# Altium schematic symbol library ADA4945-1ACPZ.SchLib: 2 symbols
Pins are listed as number, name and electrical type; pins without a type are passive.

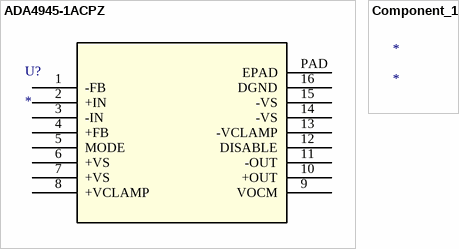
[diagram p0: symbols ADA4945-1ACPZ to Component_1]

## ADA4945-1ACPZ
designator U?
No Description Available; Copyright: Copyright (C) 2021 Accelerated Designs. All rights reserved; RefDes: RefDes; Type: DEV
footprint CP_16_22
pins: 1 -FB, 2 +IN, 3 -IN, 4 +FB, 5 MODE, 6 +VS, 7 +VS, 8 +VCLAMP, 9 VOCM, 10 +OUT, 11 -OUT, 12 DISABLE, 13 -VCLAMP, 14 -VS, 15 -VS, 16 DGND, PAD EPAD

## Component_1
designator *